# Altium footprint library sod128_0.PcbLib: 1 footprints
Each footprint in its own frame and in the unit in brackets; x right, y up, seen from the top. Pads: shape width x height; smd on the part's side, far side on the other; paste and mask are expansions set on the pad; w line width, h text height; cw(c..) or ccw(c..) is an arc to the next point about the centre after c.
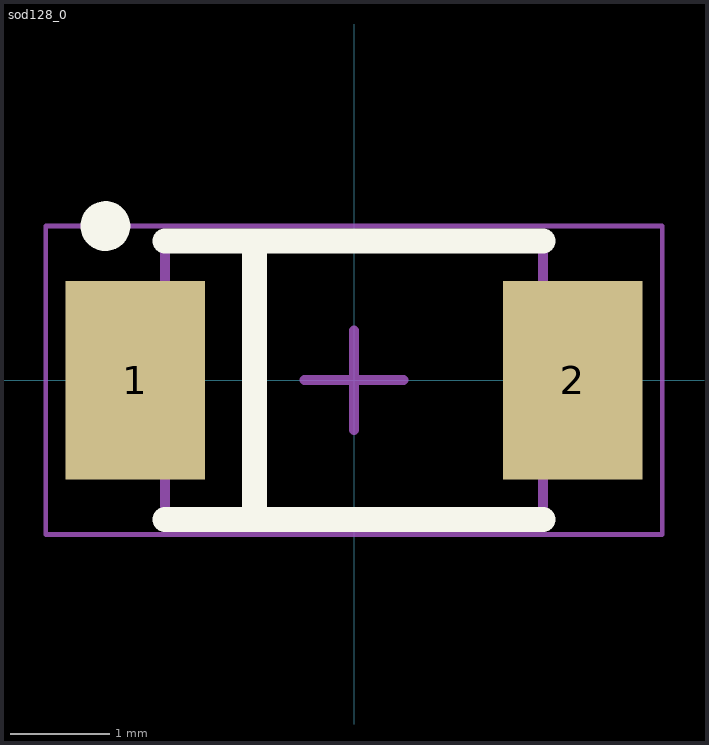
[diagram p0: the footprint, top view; thin cyan lines are the x and y axes]

## sod128_0 [mm] "SOD128"
pads (2):
  rect 1.4x2 smd: 1(-2.2,0) 2(2.2,0)
Top Overlay:
  circle w0.25: c-2.5,1.55 r0.125
  lines w0.25: -1.9,-1.4 1.9,-1.4 ; -1.9,1.4 1.9,1.4 ; -1,-1.4 -1,1.4
Mechanical 13:
  lines w0.1: -1.9,-1.35 1.9,-1.35 1.9,1.35 -1.9,1.35 -1.9,-1.35
Mechanical 15:
  lines w0.05: -3.1,-1.55 3.1,-1.55 3.1,1.55 -3.1,1.55 -3.1,-1.55
  lines w0.1: -0.5,0 0.5,0 ; 0,-0.5 0,0.5
3D body: height 0.2, standoff 0, extent -2.4,-0.75 -1.9,0.75
3D body: height 1, standoff 0, extent -1.9,-1.35 1.9,1.35
3D body: height 0.2, standoff 0, extent 1.9,-0.75 2.4,0.75